# EAGLE library part MIC2289-34YML-TR (library mic2289)
MIC2289
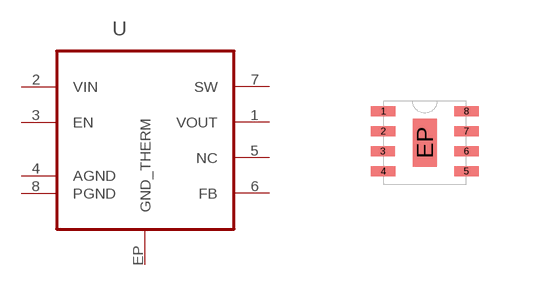
[diagram p1: symbol with the pads of MLF; footprint MLF]

Designator prefix -

## MIC2289-34YML-TR  [MLF]
1  VOUT  pas
2  VIN  pas
3  EN  pas
4  AGND  pas
5  NC  pas
6  FB  pas
7  SW  pas
8  PGND  pas
EP  GND_THERM

## Footprint MLF (pad centres in mm)
8pin MLF
smd 0.61 x 0.25: 1 -1.041,0.79; 2 -1.041,0.29; 3 -1.051,-0.21; 4 -1.041,-0.71; 5 1.041,-0.71; 6 1.041,-0.21; 7 1.041,0.29; 8 1.041,0.79
smd 0.6 x 1.2: EP 0,0